# EAGLE library part EP2C20AF256 (library altera-cyclone-II)
EP2C20AF256 Auto generated by make-symbol-device-package-bsdl.ulp Rev. 18 Tip: Use split-device-symbol.ulp to generate a Device with multiple small symbols! Read HELP. Source: EP2C20AF256.BSD
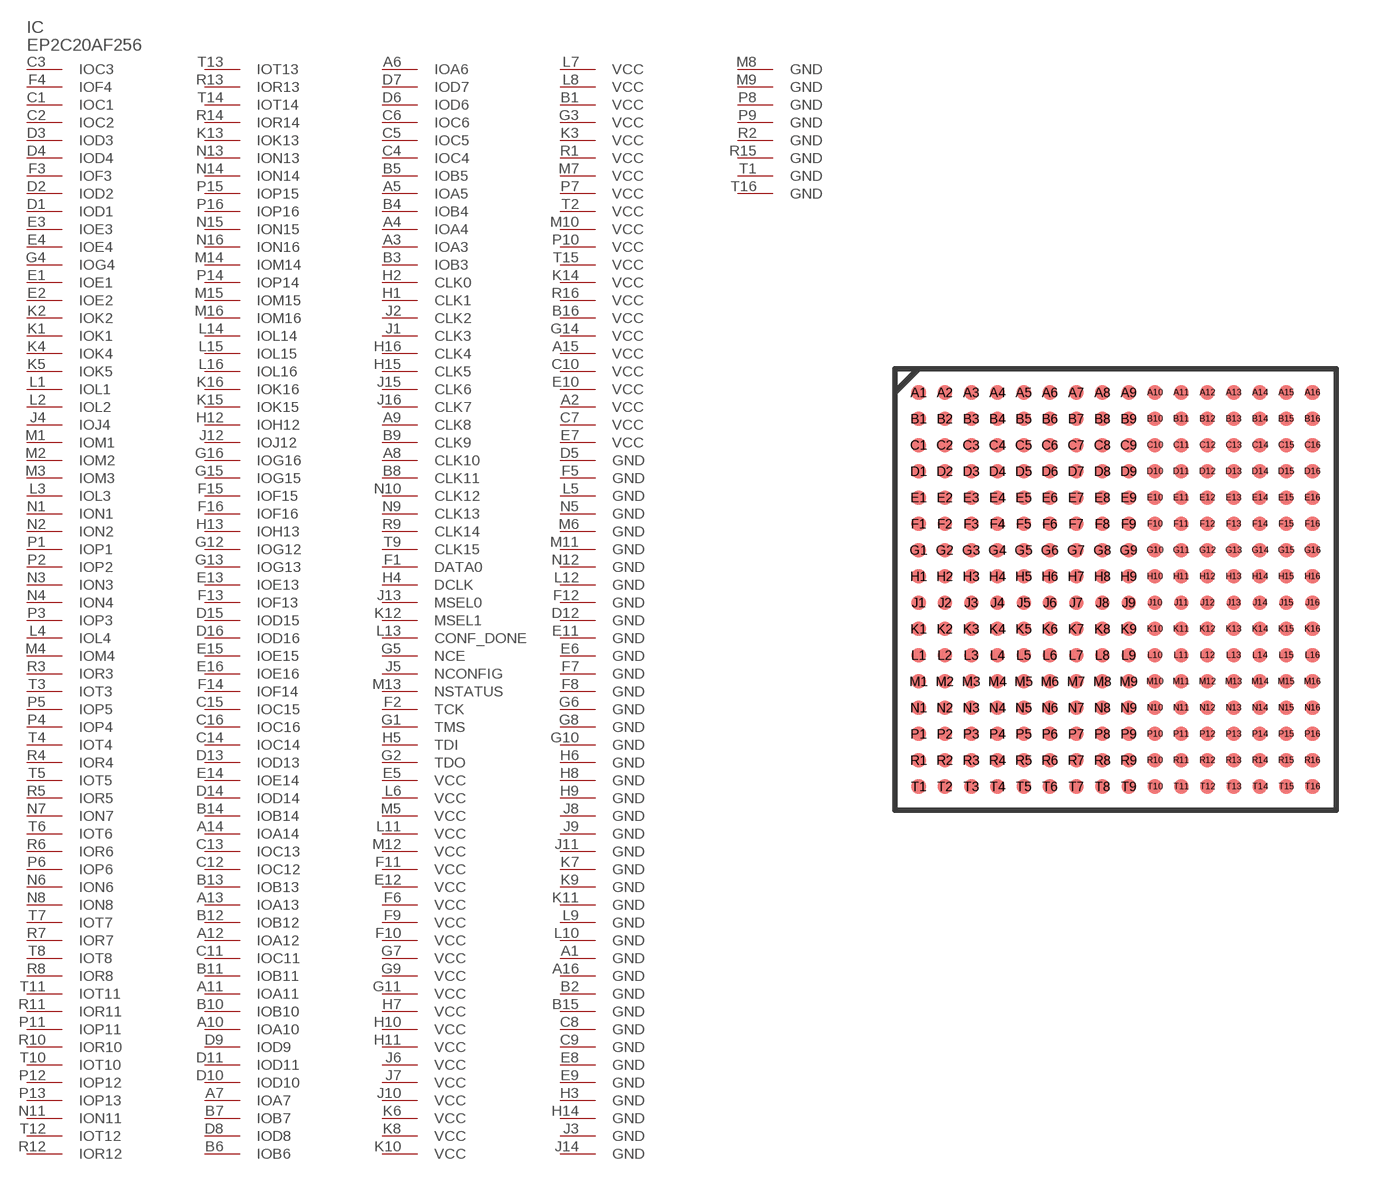
[diagram p9: symbol with the pads of FBGA256; footprint FBGA256]

Designator prefix IC

## EP2C20AF256 (MPN: EP2C20AF256I8N; OC_FARNELL: 1549349; OC_NEWARK: 52R0498)  [FBGA256]
A1  GND  pwr
A2  VCC  pwr
A3  IOA3
A4  IOA4
A5  IOA5
A6  IOA6
A7  IOA7
A8  CLK10
A9  CLK8
A10  IOA10
A11  IOA11
A12  IOA12
A13  IOA13
A14  IOA14
A15  VCC  pwr
A16  GND  pwr
B1  VCC  pwr
B2  GND  pwr
B3  IOB3
B4  IOB4
B5  IOB5
B6  IOB6
B7  IOB7
B8  CLK11
B9  CLK9
B10  IOB10
B11  IOB11
B12  IOB12
B13  IOB13
B14  IOB14
B15  GND  pwr
B16  VCC  pwr
C1  IOC1
C2  IOC2
C3  IOC3  out
C4  IOC4
C5  IOC5
C6  IOC6
C7  VCC  pwr
C8  GND  pwr
C9  GND  pwr
C10  VCC  pwr
C11  IOC11
C12  IOC12
C13  IOC13
C14  IOC14
C15  IOC15
C16  IOC16
D1  IOD1
D2  IOD2
D3  IOD3
D4  IOD4
D5  GND  pwr
D6  IOD6
D7  IOD7
D8  IOD8
D9  IOD9
D10  IOD10
D11  IOD11
D12  GND  pwr
D13  IOD13
D14  IOD14
D15  IOD15
D16  IOD16
E1  IOE1
E2  IOE2
E3  IOE3
E4  IOE4
E5  VCC  pwr
E6  GND  pwr
E7  VCC  pwr
E8  GND  pwr
E9  GND  pwr
E10  VCC  pwr
E11  GND  pwr
E12  VCC  pwr
E13  IOE13
E14  IOE14
E15  IOE15
E16  IOE16
F1  DATA0
F2  TCK  in
F3  IOF3
F4  IOF4  out
F5  GND  pwr
F6  VCC  pwr
F7  GND  pwr
F8  GND  pwr
F9  VCC  pwr
F10  VCC  pwr
F11  VCC  pwr
F12  GND  pwr
F13  IOF13
F14  IOF14
F15  IOF15
F16  IOF16
G1  TMS  in
G2  TDO  out
G3  VCC  pwr
G4  IOG4
G5  NCE  in
G6  GND  pwr
G7  VCC  pwr
G8  GND  pwr
G9  VCC  pwr
G10  GND  pwr
G11  VCC  pwr
G12  IOG12
G13  IOG13
G14  VCC  pwr
G15  IOG15
G16  IOG16
H1  CLK1
H2  CLK0
H3  GND  pwr
H4  DCLK
H5  TDI  in
H6  GND  pwr
H7  VCC  pwr
H8  GND  pwr
H9  GND  pwr
H10  VCC  pwr
H11  VCC  pwr
H12  IOH12
H13  IOH13
H14  GND  pwr
H15  CLK5
H16  CLK4
J1  CLK3
J2  CLK2
J3  GND  pwr
J4  IOJ4
J5  NCONFIG  in
J6  VCC  pwr
J7  VCC  pwr
J8  GND  pwr
J9  GND  pwr
J10  VCC  pwr
J11  GND  pwr
J12  IOJ12
J13  MSEL0  in
J14  GND  pwr
J15  CLK6
J16  CLK7
K1  IOK1
K2  IOK2
K3  VCC  pwr
K4  IOK4
K5  IOK5
K6  VCC  pwr
K7  GND  pwr
K8  VCC  pwr
K9  GND  pwr
K10  VCC  pwr
K11  GND  pwr
K12  MSEL1  in
K13  IOK13
K14  VCC  pwr
K15  IOK15
K16  IOK16
L1  IOL1
L2  IOL2
L3  IOL3
L4  IOL4
L5  GND  pwr
L6  VCC  pwr
L7  VCC  pwr
L8  VCC  pwr
L9  GND  pwr
L10  GND  pwr
L11  VCC  pwr
L12  GND  pwr
L13  CONF_DONE  in
L14  IOL14
L15  IOL15
L16  IOL16
M1  IOM1
M2  IOM2
M3  IOM3
M4  IOM4
M5  VCC  pwr
M6  GND  pwr
M7  VCC  pwr
M8  GND  pwr
M9  GND  pwr
M10  VCC  pwr
M11  GND  pwr
M12  VCC  pwr
M13  NSTATUS  in
M14  IOM14
M15  IOM15
M16  IOM16
N1  ION1
N2  ION2
N3  ION3
N4  ION4
N5  GND  pwr
N6  ION6
N7  ION7
N8  ION8
N9  CLK13
N10  CLK12
N11  ION11
N12  GND  pwr
N13  ION13
N14  ION14
N15  ION15
N16  ION16
P1  IOP1
P2  IOP2
P3  IOP3
P4  IOP4
P5  IOP5
P6  IOP6
P7  VCC  pwr
P8  GND  pwr
P9  GND  pwr
P10  VCC  pwr
P11  IOP11
P12  IOP12
P13  IOP13
P14  IOP14
P15  IOP15
P16  IOP16
R1  VCC  pwr
R2  GND  pwr
R3  IOR3
R4  IOR4
R5  IOR5
R6  IOR6
R7  IOR7
R8  IOR8
R9  CLK14
R10  IOR10
R11  IOR11
R12  IOR12
R13  IOR13
R14  IOR14
R15  GND  pwr
R16  VCC  pwr
T1  GND  pwr
T2  VCC  pwr
T3  IOT3
T4  IOT4
T5  IOT5
T6  IOT6
T7  IOT7
T8  IOT8
T9  CLK15
T10  IOT10
T11  IOT11
T12  IOT12
T13  IOT13
T14  IOT14
T15  VCC  pwr
T16  GND  pwr

## Footprint FBGA256 (pad centres in mm)
EP2C15AF256 Auto generated by make-symbol-device-package-bsdl.ulp Rev. 18 Source: EP2C15AF256.BSD www.altera.com .. cyc2_cii51015.pdf
smd 0.55 x 0.55: A1 -7.5,7.5; A2 -6.5,7.5; A3 -5.5,7.5; A4 -4.5,7.5; A5 -3.5,7.5; A6 -2.5,7.5; A7 -1.5,7.5; A8 -0.5,7.5; A9 0.5,7.5; A10 1.5,7.5; A11 2.5,7.5; A12 3.5,7.5; A13 4.5,7.5; A14 5.5,7.5; A15 6.5,7.5; A16 7.5,7.5; B1 -7.5,6.5; B2 -6.5,6.5; B3 -5.5,6.5; B4 -4.5,6.5; B5 -3.5,6.5; B6 -2.5,6.5; B7 -1.5,6.5; B8 -0.5,6.5; B9 0.5,6.5; B10 1.5,6.5; B11 2.5,6.5; B12 3.5,6.5; B13 4.5,6.5; B14 5.5,6.5; B15 6.5,6.5; B16 7.5,6.5; C1 -7.5,5.5; C2 -6.5,5.5; C3 -5.5,5.5; C4 -4.5,5.5; C5 -3.5,5.5; C6 -2.5,5.5; C7 -1.5,5.5; C8 -0.5,5.5; C9 0.5,5.5; C10 1.5,5.5; C11 2.5,5.5; C12 3.5,5.5; C13 4.5,5.5; C14 5.5,5.5; C15 6.5,5.5; C16 7.5,5.5; D1 -7.5,4.5; D2 -6.5,4.5; D3 -5.5,4.5; D4 -4.5,4.5; D5 -3.5,4.5; D6 -2.5,4.5; D7 -1.5,4.5; D8 -0.5,4.5; D9 0.5,4.5; D10 1.5,4.5; D11 2.5,4.5; D12 3.5,4.5; D13 4.5,4.5; D14 5.5,4.5; D15 6.5,4.5; D16 7.5,4.5; E1 -7.5,3.5; E2 -6.5,3.5; E3 -5.5,3.5; E4 -4.5,3.5; E5 -3.5,3.5; E6 -2.5,3.5; E7 -1.5,3.5; E8 -0.5,3.5; E9 0.5,3.5; E10 1.5,3.5; E11 2.5,3.5; E12 3.5,3.5; E13 4.5,3.5; E14 5.5,3.5; E15 6.5,3.5; E16 7.5,3.5; F1 -7.5,2.5; F2 -6.5,2.5; F3 -5.5,2.5; F4 -4.5,2.5; F5 -3.5,2.5; F6 -2.5,2.5; F7 -1.5,2.5; F8 -0.5,2.5; F9 0.5,2.5; F10 1.5,2.5; F11 2.5,2.5; F12 3.5,2.5; F13 4.5,2.5; F14 5.5,2.5; F15 6.5,2.5; F16 7.5,2.5; G1 -7.5,1.5; G2 -6.5,1.5; G3 -5.5,1.5; G4 -4.5,1.5; G5 -3.5,1.5; G6 -2.5,1.5; G7 -1.5,1.5; G8 -0.5,1.5; G9 0.5,1.5; G10 1.5,1.5; G11 2.5,1.5; G12 3.5,1.5; G13 4.5,1.5; G14 5.5,1.5; G15 6.5,1.5; G16 7.5,1.5; H1 -7.5,0.5; H2 -6.5,0.5; H3 -5.5,0.5; H4 -4.5,0.5; H5 -3.5,0.5; H6 -2.5,0.5; H7 -1.5,0.5; H8 -0.5,0.5; H9 0.5,0.5; H10 1.5,0.5; H11 2.5,0.5; H12 3.5,0.5; H13 4.5,0.5; H14 5.5,0.5; H15 6.5,0.5; H16 7.5,0.5; J1 -7.5,-0.5; J2 -6.5,-0.5; J3 -5.5,-0.5; J4 -4.5,-0.5; J5 -3.5,-0.5; J6 -2.5,-0.5; J7 -1.5,-0.5; J8 -0.5,-0.5; J9 0.5,-0.5; J10 1.5,-0.5; J11 2.5,-0.5; J12 3.5,-0.5; J13 4.5,-0.5; J14 5.5,-0.5; J15 6.5,-0.5; J16 7.5,-0.5; K1 -7.5,-1.5; K2 -6.5,-1.5; K3 -5.5,-1.5; K4 -4.5,-1.5; K5 -3.5,-1.5; K6 -2.5,-1.5; K7 -1.5,-1.5; K8 -0.5,-1.5; K9 0.5,-1.5; K10 1.5,-1.5; K11 2.5,-1.5; K12 3.5,-1.5; K13 4.5,-1.5; K14 5.5,-1.5; K15 6.5,-1.5; K16 7.5,-1.5; L1 -7.5,-2.5; L2 -6.5,-2.5; L3 -5.5,-2.5; L4 -4.5,-2.5; L5 -3.5,-2.5; L6 -2.5,-2.5; L7 -1.5,-2.5; L8 -0.5,-2.5; L9 0.5,-2.5; L10 1.5,-2.5; L11 2.5,-2.5; L12 3.5,-2.5; L13 4.5,-2.5; L14 5.5,-2.5; L15 6.5,-2.5; L16 7.5,-2.5; M1 -7.5,-3.5; M2 -6.5,-3.5; M3 -5.5,-3.5; M4 -4.5,-3.5; M5 -3.5,-3.5; M6 -2.5,-3.5; M7 -1.5,-3.5; M8 -0.5,-3.5; M9 0.5,-3.5; M10 1.5,-3.5; M11 2.5,-3.5; M12 3.5,-3.5; M13 4.5,-3.5; M14 5.5,-3.5; M15 6.5,-3.5; M16 7.5,-3.5; N1 -7.5,-4.5; N2 -6.5,-4.5; N3 -5.5,-4.5; N4 -4.5,-4.5; N5 -3.5,-4.5; N6 -2.5,-4.5; N7 -1.5,-4.5; N8 -0.5,-4.5; N9 0.5,-4.5; N10 1.5,-4.5; N11 2.5,-4.5; N12 3.5,-4.5; N13 4.5,-4.5; N14 5.5,-4.5; N15 6.5,-4.5; N16 7.5,-4.5; P1 -7.5,-5.5; P2 -6.5,-5.5; P3 -5.5,-5.5; P4 -4.5,-5.5; P5 -3.5,-5.5; P6 -2.5,-5.5; P7 -1.5,-5.5; P8 -0.5,-5.5; P9 0.5,-5.5; P10 1.5,-5.5; P11 2.5,-5.5; P12 3.5,-5.5; P13 4.5,-5.5; P14 5.5,-5.5; P15 6.5,-5.5; P16 7.5,-5.5; R1 -7.5,-6.5; R2 -6.5,-6.5; R3 -5.5,-6.5; R4 -4.5,-6.5; R5 -3.5,-6.5; R6 -2.5,-6.5; R7 -1.5,-6.5; R8 -0.5,-6.5; R9 0.5,-6.5; R10 1.5,-6.5; R11 2.5,-6.5; R12 3.5,-6.5; R13 4.5,-6.5; R14 5.5,-6.5; R15 6.5,-6.5; R16 7.5,-6.5; T1 -7.5,-7.5; T2 -6.5,-7.5; T3 -5.5,-7.5; T4 -4.5,-7.5; T5 -3.5,-7.5; T6 -2.5,-7.5; T7 -1.5,-7.5; T8 -0.5,-7.5; T9 0.5,-7.5; T10 1.5,-7.5; T11 2.5,-7.5; T12 3.5,-7.5; T13 4.5,-7.5; T14 5.5,-7.5; T15 6.5,-7.5; T16 7.5,-7.5